# Altium schematic symbol library Inverting buck boost.SchLib: 104 symbols (part 3 of 9)
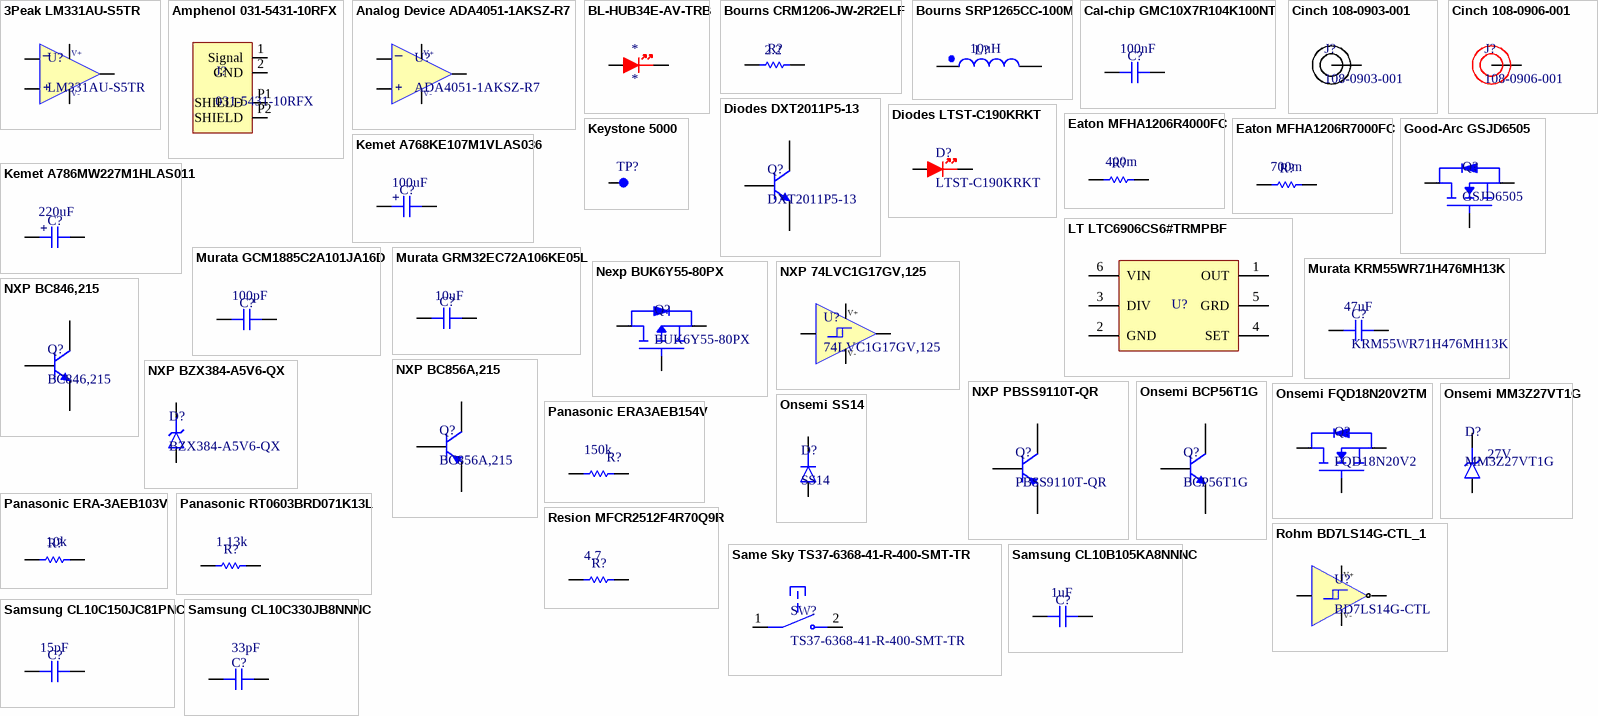
[diagram p4: symbols 3Peak LM331AU-S5TR to Samsung CL10C330JB8NNNC]

## Onsemi SS14
designator D?, comment SS14
SS14 Series 500 mV 1 A 40 V Max Reverse Voltage Schottky Rectifier - DO-214AC; Manufacturer: onsemi; Manufacturer Lifecycle Status: ACTIVE; Average Rectified Current: 1A; Element Configuration: Single; Forward Voltage: 500mV; Max Forward Surge Current (Ifsm): 30A; Max Junction Temperature (Tj): 125°C; Max Power Dissipation: 1.1W; Max Repetitive Reverse Voltage (Vrrm): 40V; Number of Elements: 1; Peak Non-Repetitive Surge Current: 40A; Peak Reverse Current: 200µA; Polarity: Standard; Voltage: 30V; Supplier: RS; Supplier Part Number: 7390467; Manufacturer Part Number: SS14; RoHS: Compliant; Category: Schottky Diodes; Stock: 1060; Pricing: 5=0,274, 50=0,236, 100=0,204, 500=0,18, 1000=0,164 (EUR); Case/Package: SMA; China RoHS: Non-Compliant; Country of Origin: Mainland China; Current: 1A; Current Rating: 1A; Export Control Classification Number (ECCN) Code: EAR99; Forward Current: 1A; Height: 2.5mm; Harmonized Tariff Schedule (HTS) Code: 8541.10.00.80; Introduction Date: 1998-01-01; Lead Free: Lead Free; Length: 4.6mm; Lifecycle Status: Production; Max Operating Temperature: 125°C; Max Output current: 1A; Max Reverse Voltage (DC): 40V; Min Operating Temperature: -65°C; Mounting Technology: Surface Mount; Pins: 2; Number of Terminals: 2; Output Current: 1A; Packaging: Cut Tape; Power Dissipation: 1.1W; Radiation Hardening: No; REACH SVHC: No; Reverse Standoff Voltage: 40V; Schedule B: 8541100080, 8541100080|8541100080|8541100080|8541100080|8541100080|8541100080|8541100080|8541100080|8541100080|8541100080|8541100080|8541100080|8541100080|8541100080|8541100080|8541100080|8541100080|8541100080|8541100080|8541100080|8541100080|8541100080|8541100080|85; Termination: SMD/SMT; Voltage Rating (DC): 40V; Weight: 105.998867mg; Width: 2.9mm; ComponentLink1URL: https://datasheet.octopart.com:443/SS14-onsemi-datasheet-180969535.pdf?src-supplier=IHS; ComponentLink1Description: https://datasheet.octopart.com:443/SS14-onsemi-datasheet-180969535.pdf?src-supplier=IHS; ComponentLink2URL: https://datasheet.octopart.com:443/SS14-Fairchild-Semiconductor-datasheet-37002494.pdf?src-supplier=IHS; ComponentLink2Description: https://datasheet.octopart.com:443/SS14-Fairchild-Semiconductor-datasheet-37002494.pdf?src-supplier=IHS; ComponentLink3URL: https://datasheet.octopart.com:443/SS14-ON-Semiconductor-datasheet-137256445.pdf?src-supplier=Electro+Sonic; ComponentLink3Description: https://datasheet.octopart.com:443/SS14-ON-Semiconductor-datasheet-137256445.pdf?src-supplier=Electro+Sonic; ComponentLink4URL: https://datasheet.octopart.com:443/SS14-ON-Semiconductor-datasheet-119409881.pdf?src-supplier=onsemi; ComponentLink4Description: https://datasheet.octopart.com:443/SS14-ON-Semiconductor-datasheet-119409881.pdf?src-supplier=onsemi; ComponentLink5URL: https://datasheet.octopart.com:443/SS14-ON-Semiconductor-datasheet-86698600.pdf?src-supplier=onsemi; ComponentLink5Description: https://datasheet.octopart.com:443/SS14-ON-Semiconductor-datasheet-86698600.pdf?src-supplier=onsemi; ComponentLink6URL: https://datasheet.octopart.com:443/SS14-ON-Semiconductor-datasheet-21199495.pdf?src-supplier=Future+Electronics; ComponentLink6Description: https://datasheet.octopart.com:443/SS14-ON-Semiconductor-datasheet-21199495.pdf?src-supplier=Future+Electronics; ComponentLink7URL: https://datasheet.octopart.com:443/SS14.-Fairchild-Semiconductor-datasheet-3545.pdf?src-supplier=element14+APAC; ComponentLink7Description: https://datasheet.octopart.com:443/SS14.-Fairchild-Semiconductor-datasheet-3545.pdf?src-supplier=element14+APAC; ComponentLink8URL: https://datasheet.octopart.com:443/SS14-Fairchild-Semiconductor-datasheet-67132011.pdf?src-supplier=element14+APAC; ComponentLink8Description: https://datasheet.octopart.com:443/SS14-Fairchild-Semiconductor-datasheet-67132011.pdf?src-supplier=element14+APAC; ComponentLink9URL: https://datasheet.octopart.com:443/SS14-Fairchild-Semiconductor-datasheet-68481721.pdf?src-supplier=element14+APAC; ComponentLink9Description: https://datasheet.octopart.com:443/SS14-Fairchild-Semiconductor-datasheet-68481721.pdf?src-supplier=element14+APAC; ComponentLink10URL: https://datasheet.octopart.com:443/SS14-onsemi-datasheet-178499215.pdf?src-supplier=Newark; ComponentLink10Description: https://datasheet.octopart.com:443/SS14-onsemi-datasheet-178499215.pdf?src-supplier=Newark; ComponentLink11URL: https://datasheet.octopart.com:443/SS14-Fairchild-Semiconductor-datasheet-67356306.pdf?src-supplier=Newark; ComponentLink11Description: https://datasheet.octopart.com:443/SS14-Fairchild-Semiconductor-datasheet-67356306.pdf?src-supplier=Newark; ComponentLink12URL: https://datasheet.octopart.com:443/SS14-Fairchild-Semiconductor-datasheet-67879033.pdf?src-supplier=Newark; ComponentLink12Description: https://datasheet.octopart.com:443/SS14-Fairchild-Semiconductor-datasheet-67879033.pdf?src-supplier=Newark; ComponentLink13URL: https://datasheet.octopart.com:443/SS14-ON-Semiconductor-datasheet-86692975.pdf?src-supplier=Farnell; ComponentLink13Description: https://datasheet.octopart.com:443/SS14-ON-Semiconductor-datasheet-86692975.pdf?src-supplier=Farnell; ComponentLink14URL: https://datasheet.octopart.com:443/SS14-onsemi-datasheet-137710389.pdf?src-supplier=TME; ComponentLink14Description: https://datasheet.octopart.com:443/SS14-onsemi-datasheet-137710389.pdf?src-supplier=TME; ComponentLink15URL: https://datasheet.octopart.com:443/SS14-ON-Semiconductor-datasheet-78863395.pdf?src-supplier=TME; ComponentLink15Description: https://datasheet.octopart.com:443/SS14-ON-Semiconductor-datasheet-78863395.pdf?src-supplier=TME; ComponentLink16URL: https://sigma.octopart.com:443/17345279/technical_drawing/Fairchild-Semiconductor-SS14..pdf?src-supplier=Fairchild+Semiconductor; ComponentLink16Description: https://sigma.octopart.com:443/17345279/technical_drawing/Fairchild-Semiconductor-SS14..pdf?src-supplier=Fairchild+Semiconductor; ComponentLink17URL: https://datasheet.octopart.com:443/SS14.-Fairchild-Semiconductor-datasheet-8381571.pdf?src-supplier=Jameco; ComponentLink17Description: https://datasheet.octopart.com:443/SS14.-Fairchild-Semiconductor-datasheet-8381571.pdf?src-supplier=Jameco; ComponentLink18URL: http://sigma.octopart.com:80/150631693/rohs_statement/ON-Semiconductor-SS14.pdf?src-supplier=Compliance+Statements; ComponentLink18Description: http://sigma.octopart.com:80/150631693/rohs_statement/ON-Semiconductor-SS14.pdf?src-supplier=Compliance+Statements; ComponentLink19URL: http://sigma.octopart.com:80/17357451/materials_sheet/Fairchild-Semiconductor-SS14..pdf?src-supplier=Compliance+Statements; ComponentLink19Description: http://sigma.octopart.com:80/17357451/materials_sheet/Fairchild-Semiconductor-SS14..pdf?src-supplier=Compliance+Statements; ComponentLink20URL: http://sigma.octopart.com:80/17357450/reach_statement/Fairchild-Semiconductor-SS14..pdf?src-supplier=Compliance+Statements; ComponentLink20Description: http://sigma.octopart.com:80/17357450/reach_statement/Fairchild-Semiconductor-SS14..pdf?src-supplier=Compliance+Statements; ComponentLink21URL: http://sigma.octopart.com:80/33331861/reach_statement/Fairchild-Semiconductor-SS14..pdf?src-supplier=Compliance+Statements; ComponentLink21Description: http://sigma.octopart.com:80/33331861/reach_statement/Fairchild-Semiconductor-SS14..pdf?src-supplier=Compliance+Statements; ComponentLink22URL: http://sigma.octopart.com:80/33331862/materials_sheet/Fairchild-Semiconductor-SS14..pdf?src-supplier=Compliance+Statements; ComponentLink22Description: http://sigma.octopart.com:80/33331862/materials_sheet/Fairchild-Semiconductor-SS14..pdf?src-supplier=Compliance+Statements; ComponentLink23URL: http://sigma.octopart.com:80/reach_statement/ON-Semiconductor-company-79.pdf?src-supplier=Compliance+Statements; ComponentLink23Description: http://sigma.octopart.com:80/reach_statement/ON-Semiconductor-company-79.pdf?src-supplier=Compliance+Statements; ComponentLink24URL: http://sigma.octopart.com:80/rohs_statement/Fairchild-Semiconductor-company-11.pdf?src-supplier=Compliance+Statements; ComponentLink24Description: http://sigma.octopart.com:80/rohs_statement/Fairchild-Semiconductor-company-11.pdf?src-supplier=Compliance+Statements; ComponentLink25URL: http://sigma.octopart.com:80/rohs_statement/Fairchild-Semiconductor-company-10.pdf?src-supplier=Compliance+Statements; ComponentLink25Description: http://sigma.octopart.com:80/rohs_statement/Fairchild-Semiconductor-company-10.pdf?src-supplier=Compliance+Statements; ComponentLink26URL: http://sigma.octopart.com:80/reach_statement/Fairchild-Semiconductor-company-9.pdf?src-supplier=Compliance+Statements; ComponentLink26Description: http://sigma.octopart.com:80/reach_statement/Fairchild-Semiconductor-company-9.pdf?src-supplier=Compliance+Statements; ComponentLink27URL: https://octopart.com:443/opatz8j6/c1?t=Bw0gF7dTHBBNgIRwmL-w_2CyYL2SBkPqmv81bh-l31_h4wWg3_a04vj5nygZPKjJEbqCn-V3QJKPEtJbJZ9dK76nf60b1hnFYSb2utlv1JMZ7nt7LZDcLJB6MnS0HXUMNymQ9MKHht22UTBn3FPLIAeU_nKjXm585aLMzgts1grjV1usOojzByqPrb06YMMbaH2DemZtlAMpdE8kThGW13fMNBaSLxUaqaEw9yCul6wsHG4N0hle5kO4fDo68Lm_qc0J9mjVS1cKqi_KRYcR4HzMEZdKKCtujOS1LtQ51mEG8ds8yMcLACJrlGl72MtFCtRQExHmh1A08LYIe9nE1jxUQxpaAYU&src-supplier=Compliance+Statements; ComponentLink27Description: https://octopart.com:443/opatz8j6/c1?t=Bw0gF7dTHBBNgIRwmL-w_2CyYL2SBkPqmv81bh-l31_h4wWg3_a04vj5nygZPKjJEbqCn-V3QJKPEtJbJZ9dK76nf60b1hnFYSb2utlv1JMZ7nt7LZDcLJB6MnS0HXUMNymQ9MKHht22UTBn3FPLIAeU_nKjXm585aLMzgts1grjV1usOojzByqPrb06YMMbaH2DemZtlAMpdE8kThGW13fMNBaSLxUaqaEw9yCul6wsHG4N0hle5kO4fDo68Lm_qc0J9mjVS1cKqi_KRYcR4HzMEZdKKCtujOS1LtQ51mEG8ds8yMcLACJrlGl72MtFCtRQExHmh1A08LYIe9nE1jxUQxpaAYU&src-supplier=Compliance+Statements; ComponentLink28URL: https://octopart.com:443/opatz8j6/c1?t=Oy9Y_xQ8UBTUdj6PwzXwp1zs71_1odZp0ZU_YgdGe4cRGR2grA12wzMk0vFreugSMOPhDRboFjT3DxMxky9bE1pRs3RzwJ4HuhrWPX0Rvf9JkcZ-KzK2E-hTxLa87m8fCG3QDeTdPLKe0q9nCHkQ9Fq-P1zjt1qPa8QNtTjCwRNLV7KQZ0akwYUkHij7z86lA5yyHwuacyylqSQdeLnxu4qSYfmPMgjMEw-ejaQVRBCjOvHtUB15Vc3ByBR5f7PieHEl4NkUuljoGV4a9YtBLQqKu7wBh9trMegOXFlGaLSEvBsdfJivtg_oNHsdlAJBiRoCdT3_Ib8N5sEl_iSFZc4efKmkxQ&src-supplier=Compliance+Statements; ComponentLink28Description: https://octopart.com:443/opatz8j6/c1?t=Oy9Y_xQ8UBTUdj6PwzXwp1zs71_1odZp0ZU_YgdGe4cRGR2grA12wzMk0vFreugSMOPhDRboFjT3DxMxky9bE1pRs3RzwJ4HuhrWPX0Rvf9JkcZ-KzK2E-hTxLa87m8fCG3QDeTdPLKe0q9nCHkQ9Fq-P1zjt1qPa8QNtTjCwRNLV7KQZ0akwYUkHij7z86lA5yyHwuacyylqSQdeLnxu4qSYfmPMgjMEw-ejaQVRBCjOvHtUB15Vc3ByBR5f7PieHEl4NkUuljoGV4a9YtBLQqKu7wBh9trMegOXFlGaLSEvBsdfJivtg_oNHsdlAJBiRoCdT3_Ib8N5sEl_iSFZc4efKmkxQ&src-supplier=Compliance+Statements
footprint DO-214AC
pins: A, C

## Panasonic ERA3AEB154V
designator R?, comment Resistance: 150k  (hidden comment: ERA3AEB154V)
Res Thin Film 0603 150K Ohm 0.1% 0.1W ±25ppm/°C Molded SMD Punched Carrier T/R; Manufacturer: Panasonic; Manufacturer Lifecycle Status: ACTIVE; Part Series: Thin Film Chip Resistors, High Reliability Type; Max Power Dissipation: 100mW; Voltage Rating: 75V; Supplier: RS; Supplier Part Number: 566856P; Manufacturer Part Number: ERA3AEB154V; RoHS: Compliant; Category: Chip SMD Resistors; Stock: 2815; Pricing: 50=0,056, 100=0,046, 250=0,04, 500=0,036 (EUR); Case/Package: 0603; Case Code (Imperial): 0603; Composition: Thin Film; Contact Plating: Tin; Country of Origin: Japan; Depth: 800µm; Export Control Classification Number (ECCN) Code: EAR99; Features: Automotive AEC-Q200; Height: 450µm; Harmonized Tariff Schedule (HTS) Code: 8533.21.00.30; Introduction Date: 2008-03-19; Lead Free: Lead Free; Length: 1.6mm; Lifecycle Status: Production; Max Operating Temperature: 155°C; Military Standard: Not; Min Operating Temperature: -55°C; Mounting Technology: Surface Mount; Pins: 2; Number of Terminals: 2; Number of Terminations: 2; Packaging: Cut Tape; Power Rating: 100mW; Radiation Hardening: No; Ratings: AEC-Q200; REACH SVHC: Yes; Schedule B: 8533210045, 8533210045|8533210045, 8533210045|8533210045|8533210045, 8533210045|8533210045|8533210045|8533210045; Temperature Coefficient: 25ppm/°C; Termination: SMD/SMT; Tolerance: 0.1%; Voltage Rating (DC): 75V; Width: 800µm; Working Voltage: 75V; ComponentLink1URL: https://datasheet.octopart.com/ERA3AEB154V-Panasonic-datasheet-62287448.pdf; ComponentLink1Description: https://datasheet.octopart.com/ERA3AEB154V-Panasonic-datasheet-62287448.pdf; ComponentLink2URL: https://datasheet.octopart.com/ERA3AEB154V-Panasonic-datasheet-78375410.pdf; ComponentLink2Description: https://datasheet.octopart.com/ERA3AEB154V-Panasonic-datasheet-78375410.pdf; ComponentLink3URL: https://sigma.octopart.com:443/138766958/technical_drawing/Panasonic-ERA-3AEB154V.pdf?src-supplier=Upverter; ComponentLink3Description: https://sigma.octopart.com:443/138766958/technical_drawing/Panasonic-ERA-3AEB154V.pdf?src-supplier=Upverter; ComponentLink4URL: https://datasheet.octopart.com:443/ERA3AEB154V-Panasonic-datasheet-8367715.pdf?src-supplier=Newark; ComponentLink4Description: https://datasheet.octopart.com:443/ERA3AEB154V-Panasonic-datasheet-8367715.pdf?src-supplier=Newark; ComponentLink5URL: https://datasheet.octopart.com:443/ERA3AEB154V-Panasonic-datasheet-136531316.pdf?src-supplier=Newark; ComponentLink5Description: https://datasheet.octopart.com:443/ERA3AEB154V-Panasonic-datasheet-136531316.pdf?src-supplier=Newark; ComponentLink6URL: https://datasheet.octopart.com:443/ERA3AEB154V-Panasonic-datasheet-61114971.pdf?src-supplier=Newark; ComponentLink6Description: https://datasheet.octopart.com:443/ERA3AEB154V-Panasonic-datasheet-61114971.pdf?src-supplier=Newark; ComponentLink7URL: https://datasheet.octopart.com:443/ERA-3AEB154V-Panasonic-datasheet-13266200.pdf?src-supplier=_legacy+Avnet; ComponentLink7Description: https://datasheet.octopart.com:443/ERA-3AEB154V-Panasonic-datasheet-13266200.pdf?src-supplier=_legacy+Avnet; ComponentLink8URL: https://datasheet.octopart.com:443/ERA-3AEB154V-Panasonic-datasheet-118567.pdf?src-supplier=element14; ComponentLink8Description: https://datasheet.octopart.com:443/ERA-3AEB154V-Panasonic-datasheet-118567.pdf?src-supplier=element14; ComponentLink9URL: https://datasheet.octopart.com:443/ERA-3AEB154V-Panasonic-datasheet-154766165.pdf?src-supplier=Master+Electronics; ComponentLink9Description: https://datasheet.octopart.com:443/ERA-3AEB154V-Panasonic-datasheet-154766165.pdf?src-supplier=Master+Electronics; ComponentLink10URL: https://datasheet.octopart.com:443/ERA-3AEB154V-Panasonic-datasheet-12510007.pdf?src-supplier=Future+Electronics; ComponentLink10Description: https://datasheet.octopart.com:443/ERA-3AEB154V-Panasonic-datasheet-12510007.pdf?src-supplier=Future+Electronics; ComponentLink11URL: https://datasheet.octopart.com:443/ERA-3AEB154V-Panasonic-datasheet-11763931.pdf?src-supplier=Future+Electronics; ComponentLink11Description: https://datasheet.octopart.com:443/ERA-3AEB154V-Panasonic-datasheet-11763931.pdf?src-supplier=Future+Electronics; ComponentLink12URL: https://datasheet.octopart.com:443/ERA-3AEB154V-Panasonic-datasheet-10840895.pdf?src-supplier=Future+Electronics; ComponentLink12Description: https://datasheet.octopart.com:443/ERA-3AEB154V-Panasonic-datasheet-10840895.pdf?src-supplier=Future+Electronics; ComponentLink13URL: https://datasheet.octopart.com:443/ERA-3AEB154V-Panasonic-datasheet-5392808.pdf?src-supplier=Future+Electronics; ComponentLink13Description: https://datasheet.octopart.com:443/ERA-3AEB154V-Panasonic-datasheet-5392808.pdf?src-supplier=Future+Electronics; ComponentLink14URL: https://datasheet.octopart.com:443/ERA-3AEB154V-Panasonic-datasheet-46744048.pdf?src-supplier=RS+(Formerly+Allied+Electronics); ComponentLink14Description: https://datasheet.octopart.com:443/ERA-3AEB154V-Panasonic-datasheet-46744048.pdf?src-supplier=RS+(Formerly+Allied+Electronics); ComponentLink15URL: https://datasheet.octopart.com:443/ERA3AEB154V-Panasonic-datasheet-188913046.pdf?src-supplier=TME; ComponentLink15Description: https://datasheet.octopart.com:443/ERA3AEB154V-Panasonic-datasheet-188913046.pdf?src-supplier=TME; ComponentLink16URL: https://sigma.octopart.com:443/150570796/technical_drawing/Panasonic-ERA3AEB154V.pdf?src-supplier=Panasonic+SCT; ComponentLink16Description: https://sigma.octopart.com:443/150570796/technical_drawing/Panasonic-ERA3AEB154V.pdf?src-supplier=Panasonic+SCT; ComponentLink17URL: https://datasheet.octopart.com:443/ERA3AEB154V-Panasonic-datasheet-138783076.pdf?src-supplier=Burklin+Elektronik; ComponentLink17Description: https://datasheet.octopart.com:443/ERA3AEB154V-Panasonic-datasheet-138783076.pdf?src-supplier=Burklin+Elektronik; ComponentLink18URL: https://datasheet.octopart.com:443/ERA3AEB154V-Panasonic---ECG-datasheet-15994758.pdf?src-supplier=Farnell; ComponentLink18Description: https://datasheet.octopart.com:443/ERA3AEB154V-Panasonic---ECG-datasheet-15994758.pdf?src-supplier=Farnell; ComponentLink19URL: https://datasheet.octopart.com:443/ERA-3AEB154V-Panasonic-datasheet-33006989.pdf?src-supplier=Electro+Sonic; ComponentLink19Description: https://datasheet.octopart.com:443/ERA-3AEB154V-Panasonic-datasheet-33006989.pdf?src-supplier=Electro+Sonic
footprint res_0603
pins: 1, 2

## Panasonic ERA-3AEB103V
designator R?, comment Resistance: 10k  (hidden comment: ERA-3AEB103V)
Res Thin Film 0603 10K Ohm 0.1% 1/10W ±25ppm/°C Molded SMD SMD Punched Carrier T/R; Manufacturer: Panasonic; Manufacturer Lifecycle Status: ACTIVE; Part Series: Thin Film Chip Resistors, High Reliability Type; Max Power Dissipation: 100mW; Voltage Rating: 75V; Supplier: RS; Supplier Part Number: 566890P; Manufacturer Part Number: ERA-3AEB103V; RoHS: Compliant; Category: Chip SMD Resistors; Stock: 165600; Pricing: 50=0,056, 100=0,046, 250=0,04, 500=0,036 (EUR); Case/Package: 0603; Case Code (Imperial): 0603; Composition: Thin Film; Contact Plating: Tin; Country of Origin: Japan; Depth: 800µm; Export Control Classification Number (ECCN) Code: EAR99; Height: 450µm; Harmonized Tariff Schedule (HTS) Code: 8533.21.00.30; Introduction Date: 2008-03-19; Lead Free: Lead Free; Length: 1.6mm; Lifecycle Status: Production; Max Operating Temperature: 155°C; Military Standard: Not; Min Operating Temperature: -55°C; Mounting Technology: Surface Mount; Pins: 2; Number of Terminals: 2; Number of Terminations: 2; Packaging: Cut Tape; Power Rating: 100mW; Radiation Hardening: No; Ratings: AEC-Q200; REACH SVHC: Yes; Schedule B: 8533210045, 8533210045|8533210045|8533210045|8533210045|8533210045|8533210045|8533210045|8533210045|8533210045|8533210045|8533210045|8533210045|8533210045|8533210045|8533210045|8533210045|8533210045|8533210045|8533210045|8533210045|8533210045|8533210045|8533210045|85; Temperature Coefficient: 25ppm/°C; Termination: SMD/SMT; Tolerance: 0.1%; Voltage Rating (DC): 75V; Width: 800µm; Working Voltage: 75V; ComponentLink1URL: https://datasheet.octopart.com:443/ERA-3AEB103V-Panasonic-datasheet-62287448.pdf?src-supplier=Newark; ComponentLink1Description: https://datasheet.octopart.com:443/ERA-3AEB103V-Panasonic-datasheet-62287448.pdf?src-supplier=Newark; ComponentLink2URL: https://datasheet.octopart.com:443/ERA-3AEB103V-Panasonic-datasheet-118567.pdf?src-supplier=Newark; ComponentLink2Description: https://datasheet.octopart.com:443/ERA-3AEB103V-Panasonic-datasheet-118567.pdf?src-supplier=Newark; ComponentLink3URL: https://datasheet.octopart.com:443/ERA-3AEB103V-Panasonic-datasheet-61114971.pdf?src-supplier=Newark; ComponentLink3Description: https://datasheet.octopart.com:443/ERA-3AEB103V-Panasonic-datasheet-61114971.pdf?src-supplier=Newark; ComponentLink4URL: https://datasheet.octopart.com:443/ERA3AEB103V-Panasonic-datasheet-22087624.pdf?src-supplier=Newark; ComponentLink4Description: https://datasheet.octopart.com:443/ERA3AEB103V-Panasonic-datasheet-22087624.pdf?src-supplier=Newark; ComponentLink5URL: https://sigma.octopart.com:443/138766958/technical_drawing/Panasonic-ERA-3AEB103V.pdf?src-supplier=Upverter; ComponentLink5Description: https://sigma.octopart.com:443/138766958/technical_drawing/Panasonic-ERA-3AEB103V.pdf?src-supplier=Upverter; ComponentLink6URL: https://datasheet.octopart.com:443/ERA-3AEB103V-Panasonic-datasheet-136531316.pdf?src-supplier=Farnell; ComponentLink6Description: https://datasheet.octopart.com:443/ERA-3AEB103V-Panasonic-datasheet-136531316.pdf?src-supplier=Farnell; ComponentLink7URL: https://datasheet.octopart.com:443/ERA-3AEB103V-Panasonic-datasheet-13266200.pdf?src-supplier=RS+(Formerly+Allied+Electronics); ComponentLink7Description: https://datasheet.octopart.com:443/ERA-3AEB103V-Panasonic-datasheet-13266200.pdf?src-supplier=RS+(Formerly+Allied+Electronics); ComponentLink8URL: https://datasheet.octopart.com:443/ERA-3AEB103V-Panasonic-datasheet-46744048.pdf?src-supplier=RS+(Formerly+Allied+Electronics); ComponentLink8Description: https://datasheet.octopart.com:443/ERA-3AEB103V-Panasonic-datasheet-46744048.pdf?src-supplier=RS+(Formerly+Allied+Electronics); ComponentLink9URL: https://datasheet.octopart.com:443/ERA-3AEB103V-Panasonic-datasheet-10840895.pdf?src-supplier=Future+Electronics; ComponentLink9Description: https://datasheet.octopart.com:443/ERA-3AEB103V-Panasonic-datasheet-10840895.pdf?src-supplier=Future+Electronics; ComponentLink10URL: https://datasheet.octopart.com:443/ERA-3AEB103V-Panasonic-datasheet-8367715.pdf?src-supplier=Future+Electronics; ComponentLink10Description: https://datasheet.octopart.com:443/ERA-3AEB103V-Panasonic-datasheet-8367715.pdf?src-supplier=Future+Electronics; ComponentLink11URL: https://datasheet.octopart.com:443/ERA-3AEB103V-Panasonic-datasheet-12510007.pdf?src-supplier=Future+Electronics; ComponentLink11Description: https://datasheet.octopart.com:443/ERA-3AEB103V-Panasonic-datasheet-12510007.pdf?src-supplier=Future+Electronics; ComponentLink12URL: https://datasheet.octopart.com:443/ERA-3AEB103V-Panasonic-datasheet-11763931.pdf?src-supplier=Future+Electronics; ComponentLink12Description: https://datasheet.octopart.com:443/ERA-3AEB103V-Panasonic-datasheet-11763931.pdf?src-supplier=Future+Electronics; ComponentLink13URL: https://datasheet.octopart.com:443/ERA-3AEB103V-Panasonic-datasheet-5392808.pdf?src-supplier=Future+Electronics; ComponentLink13Description: https://datasheet.octopart.com:443/ERA-3AEB103V-Panasonic-datasheet-5392808.pdf?src-supplier=Future+Electronics; ComponentLink14URL: https://datasheet.octopart.com:443/ERA-3AEB103V-Panasonic-datasheet-154766165.pdf?src-supplier=Master+Electronics; ComponentLink14Description: https://datasheet.octopart.com:443/ERA-3AEB103V-Panasonic-datasheet-154766165.pdf?src-supplier=Master+Electronics; ComponentLink15URL: https://datasheet.octopart.com:443/ERA3AEB103V-Panasonic-datasheet-188913046.pdf?src-supplier=TME; ComponentLink15Description: https://datasheet.octopart.com:443/ERA3AEB103V-Panasonic-datasheet-188913046.pdf?src-supplier=TME; ComponentLink16URL: https://sigma.octopart.com:443/150570796/technical_drawing/Panasonic-ERA3AEB103V.pdf?src-supplier=Panasonic+SCT; ComponentLink16Description: https://sigma.octopart.com:443/150570796/technical_drawing/Panasonic-ERA3AEB103V.pdf?src-supplier=Panasonic+SCT; ComponentLink17URL: https://datasheet.octopart.com:443/ERA3AEB103V-Panasonic-datasheet-138783076.pdf?src-supplier=Burklin+Elektronik; ComponentLink17Description: https://datasheet.octopart.com:443/ERA3AEB103V-Panasonic-datasheet-138783076.pdf?src-supplier=Burklin+Elektronik; ComponentLink18URL: https://datasheet.octopart.com/ERA-3AEB103V-Panasonic-datasheet-78375410.pdf; ComponentLink18Description: https://datasheet.octopart.com/ERA-3AEB103V-Panasonic-datasheet-78375410.pdf; ComponentLink19URL: https://datasheet.octopart.com:443/ERA-3AEB103V-Panasonic-datasheet-10050158.pdf?src-supplier=Arrow+Electronics; ComponentLink19Description: https://datasheet.octopart.com:443/ERA-3AEB103V-Panasonic-datasheet-10050158.pdf?src-supplier=Arrow+Electronics; ComponentLink20URL: https://datasheet.octopart.com:443/ERA-3AEB103V-Panasonic-datasheet-33006989.pdf?src-supplier=Electro+Sonic; ComponentLink20Description: https://datasheet.octopart.com:443/ERA-3AEB103V-Panasonic-datasheet-33006989.pdf?src-supplier=Electro+Sonic
footprint res_0603
pins: 1, 2

## Panasonic RT0603BRD071K13L
designator R?, comment Resistance: 1.13k  (hidden comment: RT0603BRD071K13L)
Res Thin Film 0603 1.13K Ohm 0.1% 0.1W(1/10W) ±25ppm/C Pad SMD T/R; Manufacturer: Yageo Group; Max Power Dissipation: 100mW; Temperature Coefficient: 25ppm/°C; Voltage Rating: 75V; Voltage Rating (DC): 50V; Supplier: Arrow Electronics; Supplier Part Number: RT0603BRD071K13L; Manufacturer Part Number: RT0603BRD071K13L; RoHS: Compliant; Category: Chip SMD Resistors; Stock: 2853; Pricing: 1=0,0998, 10=0,0669, 25=0,0627, 50=0,0591, 100=0,0558, 250=0,0518, 500=0,049, 1000=0,0464 (USD); Case/Package: 0603; Case Code (Imperial): 0603; China RoHS: Non-Compliant; Composition: Thin Film; Contact Plating: Tin; Country of Origin: Mainland China, Taiwan; Depth: 800µm; Export Control Classification Number (ECCN) Code: EAR99; Height: 450µm; Harmonized Tariff Schedule (HTS) Code: 8533.21.00.30; Introduction Date: 2008-06-09; Lead Free: Lead Free; Length: 1.6mm; Lifecycle Status: Production; Max Operating Temperature: 155°C; Military Standard: Not; Min Operating Temperature: -55°C; Mounting Technology: Surface Mount; Number of Terminals: 2; Number of Terminations: 2; Power Rating: 100mW; Radiation Hardening: No; REACH SVHC: Yes; Schedule B: 8533210045, 8533210045|8533210045|8533210045|8533210045|8533210045; Termination: SMD/SMT; Tolerance: 0.1%; Weight: 2.012816mg; Width: 800µm; Working Voltage: 75V; ComponentLink1URL: https://datasheet.octopart.com:443/RT0603BRD071K13L-Yageo-datasheet-176402239.pdf?src-supplier=Future+Electronics; ComponentLink1Description: https://datasheet.octopart.com:443/RT0603BRD071K13L-Yageo-datasheet-176402239.pdf?src-supplier=Future+Electronics; ComponentLink2URL: https://datasheet.octopart.com:443/RT0603BRD071K13L-Yageo-datasheet-169971040.pdf?src-supplier=Future+Electronics; ComponentLink2Description: https://datasheet.octopart.com:443/RT0603BRD071K13L-Yageo-datasheet-169971040.pdf?src-supplier=Future+Electronics; ComponentLink3URL: https://datasheet.octopart.com:443/RT0603BRD071K13L-Yageo-datasheet-166250672.pdf?src-supplier=Future+Electronics; ComponentLink3Description: https://datasheet.octopart.com:443/RT0603BRD071K13L-Yageo-datasheet-166250672.pdf?src-supplier=Future+Electronics; ComponentLink4URL: https://datasheet.octopart.com:443/RT0603BRD071K13L-Yageo-datasheet-137700930.pdf?src-supplier=Future+Electronics; ComponentLink4Description: https://datasheet.octopart.com:443/RT0603BRD071K13L-Yageo-datasheet-137700930.pdf?src-supplier=Future+Electronics; ComponentLink5URL: https://datasheet.octopart.com:443/RT0603BRD071K13L-Yageo-datasheet-96443642.pdf?src-supplier=Upverter; ComponentLink5Description: https://datasheet.octopart.com:443/RT0603BRD071K13L-Yageo-datasheet-96443642.pdf?src-supplier=Upverter; ComponentLink6URL: https://datasheet.octopart.com:443/RT0603BRD071K13L-Yageo-Group-datasheet-141265893.pdf?src-supplier=ODG+(Origin+Data+Global); ComponentLink6Description: https://datasheet.octopart.com:443/RT0603BRD071K13L-Yageo-Group-datasheet-141265893.pdf?src-supplier=ODG+(Origin+Data+Global); ComponentLink7URL: https://datasheet.octopart.com:443/RT0603BRD071K13L-Yageo-datasheet-10915759.pdf?src-supplier=_legacy+Avnet; ComponentLink7Description: https://datasheet.octopart.com:443/RT0603BRD071K13L-Yageo-datasheet-10915759.pdf?src-supplier=_legacy+Avnet; ComponentLink8URL: https://datasheet.octopart.com/RT0603BRD071K13L-Yageo-datasheet-86813807.pdf; ComponentLink8Description: https://datasheet.octopart.com/RT0603BRD071K13L-Yageo-datasheet-86813807.pdf; ComponentLink9URL: http://sigma.octopart.com:80/conflict_mineral_statement/Yageo-company-3.pdf?src-supplier=Compliance+Statements; ComponentLink9Description: http://sigma.octopart.com:80/conflict_mineral_statement/Yageo-company-3.pdf?src-supplier=Compliance+Statements; ComponentLink10URL: http://sigma.octopart.com:80/rohs_statement/Yageo-company-2.pdf?src-supplier=Compliance+Statements; ComponentLink10Description: http://sigma.octopart.com:80/rohs_statement/Yageo-company-2.pdf?src-supplier=Compliance+Statements
footprint RES_0603
pins: 1, 2

## Resion MFCR2512F4R70Q9R
designator R?, comment Resistance: 4.7  (hidden comment: MFCR2512F4R70Q9R)
4.7 Ohm 1% 2W 50PPM/C; Manufacturer: Resion; Supplier: DigiKey; Supplier Part Number: 4506-MFCR2512F4R70Q9RCT-ND; Manufacturer Part Number: MFCR2512F4R70Q9R; Category: Chip SMD Resistors; Stock: 1143; Pricing: 1=0,43, 10=0,238, 25=0,196, 50=0,1722, 100=0,1533, 250=0,13416, 500=0,12316, 1000=0,11441 (USD)
footprint RES_2512
pins: 1, 2

## Rohm BD7LS14G-CTL_1
designator U?, comment BD7LS14G-CTL
Inverter Schmitt Trigger 1-Element Bipolar Automotive 5-Pin SSOP; Manufacturer: ROHM; Supplier: Arrow Electronics; Supplier Part Number: BD7LS14G-CTL; Manufacturer Part Number: BD7LS14G-CTL; RoHS: Compliant; Category: Logic Gates; Stock: 132; Pricing: 1=0,3859, 10=0,2699, 25=0,236, 100=0,2023 (USD); Export Control Classification Number (ECCN) Code: EAR99; Harmonized Tariff Schedule (HTS) Code: 8542.39.00.01; Introduction Date: 2020-08-18; Lifecycle Status: Production; REACH SVHC: Yes; ComponentLink1URL: https://datasheet.octopart.com:443/BD7LS14G-CTL-ROHM-datasheet-181218343.pdf?src-supplier=IHS; ComponentLink1Description: https://datasheet.octopart.com:443/BD7LS14G-CTL-ROHM-datasheet-181218343.pdf?src-supplier=IHS; ComponentLink2URL: https://datasheet.octopart.com:443/BD7LS14G-CTL-ROHM-datasheet-181960431.pdf?src-supplier=Newark; ComponentLink2Description: https://datasheet.octopart.com:443/BD7LS14G-CTL-ROHM-datasheet-181960431.pdf?src-supplier=Newark
footprint ssop5
pins: 2 A, 3 V-, 4 Y, 5 V+

## Same Sky TS37-6368-41-R-400-SMT-TR
designator SW?, comment TS37-6368-41-R-400-SMT-TR
6.3 x 6.8 mm, 4.1 mm Actuator Height Off PCB, 400 gf, Red, Surface Mount, SPST, Tactile Switch; Manufacturer: Same Sky; Supplier: DigiKey; Supplier Part Number: 2223-TS37-6368-41-R-400-SMT-TR-ND; Manufacturer Part Number: TS37-6368-41-R-400-SMT-TR; Category: Tactile Switches; Stock: 3899; Pricing: 1300=0,52996, 2600=0,5032, 3900=0,48887, 6500=0,47218, 9100=0,46198, 13000=0,45185 (USD); Lifecycle Status: Production; ComponentLink1URL: https://datasheet.octopart.com:443/TS37-6368-41-R-400-SMT-TR-Same-Sky-datasheet-191161330.pdf?src-supplier=Same+Sky; ComponentLink1Description: https://datasheet.octopart.com:443/TS37-6368-41-R-400-SMT-TR-Same-Sky-datasheet-191161330.pdf?src-supplier=Same+Sky; ComponentLink2URL: https://datasheet.octopart.com:443/TS37-6368-41-R-400-SMT-TR-Same-Sky-datasheet-191412509.pdf?src-supplier=element14+APAC; ComponentLink2Description: https://datasheet.octopart.com:443/TS37-6368-41-R-400-SMT-TR-Same-Sky-datasheet-191412509.pdf?src-supplier=element14+APAC
footprint TS37-6368-41-R-400-SMT-TR
pins: 1, 2

## Samsung CL10B105KA8NNNC
designator C?, comment Capacitance: 1uF  (hidden comment: CL10B105KA8NNNC)
25V 1uF X7R 卤10% 0603 Multilayer Ceramic Capacitors MLCC - SMD/SMT ROHS; Manufacturer: Samsung Electro-Mechanics; Tolerance: 10%; Supplier: RS; Supplier Part Number: 7664847; Manufacturer Part Number: CL10B105KA8NNNC; RoHS: Compliant; Category: Ceramic Capacitors; Stock: 464000; Pricing: 4000=0,014, 8000=0,014, 16000=0,013, 24000=0,011, 40000=0,009 (EUR); Case/Package: 0603; Case Code (Imperial): 0603; Case Code (Metric): 1608; China RoHS: Compliant; Contact Plating: Tin; Country of Origin: Mainland China, Philippines, South Korea; Depth: 800µm; Dielectric: X7R; Dielectric Material: Ceramic; Export Control Classification Number (ECCN) Code: EAR99; Height: 900µm; Harmonized Tariff Schedule (HTS) Code: 8532.24.00.20; Introduction Date: 2009-11-02; Length: 1.6mm; Lifecycle Status: Production; Material: Ceramic; Max Operating Temperature: 125°C; Min Operating Temperature: -55°C; Mounting Technology: Surface Mount; Number of Terminals: 2; Radiation Hardening: No; REACH SVHC: Yes; Schedule B: 8532240020, 8532240020|8532240020, 8532240020|8532240020|8532240020, 8532240020|8532240020|8532240020|8532240020; Thickness: 889µm; Voltage: 25V; Voltage Rating: 25V; Voltage Rating (DC): 25V; Width: 800µm; ComponentLink1URL: https://datasheet.octopart.com:443/CL10B105KA8NNNC-Samsung-Electro-Mechanics-datasheet-182019882.pdf?src-supplier=IHS; ComponentLink1Description: https://datasheet.octopart.com:443/CL10B105KA8NNNC-Samsung-Electro-Mechanics-datasheet-182019882.pdf?src-supplier=IHS; ComponentLink2URL: https://datasheet.octopart.com:443/CL10B105KA8NNNC-Samsung-Electro-Mechanics-datasheet-106547815.pdf?src-supplier=Upverter; ComponentLink2Description: https://datasheet.octopart.com:443/CL10B105KA8NNNC-Samsung-Electro-Mechanics-datasheet-106547815.pdf?src-supplier=Upverter; ComponentLink3URL: https://datasheet.octopart.com:443/CL10B105KA8NNNC-Samsung-Electro-Mechanics-datasheet-137699931.pdf?src-supplier=Samsung+SCT; ComponentLink3Description: https://datasheet.octopart.com:443/CL10B105KA8NNNC-Samsung-Electro-Mechanics-datasheet-137699931.pdf?src-supplier=Samsung+SCT; ComponentLink4URL: https://datasheet.octopart.com:443/CL10B105KA8NNNC-Samsung-Electro-Mechanics-datasheet-116890983.pdf?src-supplier=Future+Electronics; ComponentLink4Description: https://datasheet.octopart.com:443/CL10B105KA8NNNC-Samsung-Electro-Mechanics-datasheet-116890983.pdf?src-supplier=Future+Electronics; ComponentLink5URL: https://datasheet.octopart.com:443/CL10B105KA8NNNC-Samsung-datasheet-12527851.pdf?src-supplier=Future+Electronics; ComponentLink5Description: https://datasheet.octopart.com:443/CL10B105KA8NNNC-Samsung-datasheet-12527851.pdf?src-supplier=Future+Electronics; ComponentLink6URL: https://datasheet.octopart.com:443/CL10B105KA8NNNC-Samsung-datasheet-26669022.pdf?src-supplier=Future+Electronics; ComponentLink6Description: https://datasheet.octopart.com:443/CL10B105KA8NNNC-Samsung-datasheet-26669022.pdf?src-supplier=Future+Electronics; ComponentLink7URL: https://datasheet.octopart.com:443/CL10B105KA8NNNC-Samsung-Electro-Mechanics-datasheet-149136795.pdf?src-supplier=Future+Electronics; ComponentLink7Description: https://datasheet.octopart.com:443/CL10B105KA8NNNC-Samsung-Electro-Mechanics-datasheet-149136795.pdf?src-supplier=Future+Electronics; ComponentLink8URL: https://datasheet.octopart.com:443/CL10B105KA8NNNC-Samsung-datasheet-37081328.pdf?src-supplier=Future+Electronics; ComponentLink8Description: https://datasheet.octopart.com:443/CL10B105KA8NNNC-Samsung-datasheet-37081328.pdf?src-supplier=Future+Electronics; ComponentLink9URL: https://datasheet.octopart.com/CL10B105KA8NNNC-Samsung-Electro-Mechanics-datasheet-97040617.pdf; ComponentLink9Description: https://datasheet.octopart.com/CL10B105KA8NNNC-Samsung-Electro-Mechanics-datasheet-97040617.pdf; ComponentLink10URL: https://datasheet.octopart.com/CL10B105KA8NNNC-Samsung-Electro-Mechanics-datasheet-8324245.pdf; ComponentLink10Description: https://datasheet.octopart.com/CL10B105KA8NNNC-Samsung-Electro-Mechanics-datasheet-8324245.pdf; ComponentLink11URL: https://datasheet.octopart.com:443/CL10B105KA8NNNC-Samsung-datasheet-59220082.pdf?src-supplier=TME; ComponentLink11Description: https://datasheet.octopart.com:443/CL10B105KA8NNNC-Samsung-datasheet-59220082.pdf?src-supplier=TME; ComponentLink12URL: https://datasheet.octopart.com:443/CL10B105KA8NNNC-Samsung-Electro-Mechanics-datasheet-11897796.pdf?src-supplier=Arrow+Electronics; ComponentLink12Description: https://datasheet.octopart.com:443/CL10B105KA8NNNC-Samsung-Electro-Mechanics-datasheet-11897796.pdf?src-supplier=Arrow+Electronics
footprint cap_0603
pins: 1, 2

## Samsung CL10C150JC81PNC
designator C?, comment Capacitance: 15pF  (hidden comment: CL10C150JC81PNC)
100V 15pF C0G 卤5% 0603 Multilayer Ceramic Capacitors MLCC - SMD/SMT ROHS; Manufacturer: Samsung Electro-Mechanics; Temperature Coefficient: 30ppm/°C; Tolerance: 5%; Supplier: DigiKey; Supplier Part Number: 1276-CL10C150JC81PNCDKR-ND; Manufacturer Part Number: CL10C150JC81PNC; RoHS: Compliant; Category: Ceramic Capacitors; Stock: 73765; Pricing: 1=0,1, 10=0,05, 50=0,0342, 100=0,0295, 500=0,02142, 1000=0,01896 (USD); Case/Package: 0603; China RoHS: Compliant; Country of Origin: Mainland China, Philippines, South Korea; Dielectric Material: Ceramic; Export Control Classification Number (ECCN) Code: EAR99; Height: 800µm; Harmonized Tariff Schedule (HTS) Code: 8532.24.00.20; Introduction Date: 2010-02-10; Length: 1.6mm; Lifecycle Status: Production; Material: Ceramic; Max Operating Temperature: 125°C; Min Operating Temperature: -55°C; Mounting Technology: Surface Mount; Number of Terminals: 2; REACH SVHC: Yes; Voltage Rating: 100V; Voltage Rating (DC): 100V; Width: 800µm; ComponentLink1URL: https://datasheet.octopart.com:443/CL10C150JC81PNC-Samsung-Electro-Mechanics-datasheet-176142735.pdf?src-supplier=IHS; ComponentLink1Description: https://datasheet.octopart.com:443/CL10C150JC81PNC-Samsung-Electro-Mechanics-datasheet-176142735.pdf?src-supplier=IHS
footprint cap_0603
pins: 1, 2

## Samsung CL10C330JB8NNNC
designator C?, comment Capacitance: 33pF  (hidden comment: CL10C330JB8NNNC)
Multilayer Ceramic Capacitor, 33 pF, 50 V, ± 5%, C0G (NP0), 0603 [1608 Metric]; Manufacturer: Samsung Electro-Mechanics; Temperature Coefficient: 30ppm/°C; Voltage: 50V; Supplier: RS; Supplier Part Number: 7665070; Manufacturer Part Number: CL10C330JB8NNNC; RoHS: Compliant; Category: Ceramic Capacitors; Stock: 292000; Pricing: 4000=0,009, 12000=0,008, 20000=0,008, 40000=0,007, 100000=0,007 (EUR); Case/Package: 0603; Case Code (Imperial): 0603; Case Code (Metric): 1608; China RoHS: Compliant; Contact Plating: Tin; Country of Origin: Mainland China, Philippines, South Korea; Depth: 800µm; Dielectric: C0G; Dielectric Material: Ceramic; Export Control Classification Number (ECCN) Code: EAR99; Height: 900µm; Harmonized Tariff Schedule (HTS) Code: 8532.24.00.20; Introduction Date: 2010-02-10; Lead Free: Lead Free; Length: 1.6mm; Lifecycle Status: Production; Material: Ceramic; Max Operating Temperature: 125°C; Min Operating Temperature: -55°C; Mounting Technology: Surface Mount; Number of Terminals: 2; Radiation Hardening: No; REACH SVHC: Yes; Schedule B: 8532240020, 8532240020|8532240020|8532240020|8532240020|8532240020; Thickness: 889µm; Tolerance: 5%; Voltage Rating: 50V; Voltage Rating (DC): 50V; Width: 800µm; ComponentLink1URL: https://datasheet.octopart.com:443/CL10C330JB8NNNC-Samsung-Electro-Mechanics-datasheet-136482426.pdf?src-supplier=IHS; ComponentLink1Description: https://datasheet.octopart.com:443/CL10C330JB8NNNC-Samsung-Electro-Mechanics-datasheet-136482426.pdf?src-supplier=IHS; ComponentLink2URL: https://datasheet.octopart.com/CL10C330JB8NNNC-Samsung-Electro-Mechanics-datasheet-8324245.pdf; ComponentLink2Description: https://datasheet.octopart.com/CL10C330JB8NNNC-Samsung-Electro-Mechanics-datasheet-8324245.pdf; ComponentLink3URL: https://datasheet.octopart.com/CL10C330JB8NNNC-Samsung-Electro-Mechanics-datasheet-97040617.pdf; ComponentLink3Description: https://datasheet.octopart.com/CL10C330JB8NNNC-Samsung-Electro-Mechanics-datasheet-97040617.pdf; ComponentLink4URL: https://datasheet.octopart.com/General-Multilayer-Ceramic-Capacitors-Samsung-datasheet-family-111.pdf; ComponentLink4Description: https://datasheet.octopart.com/General-Multilayer-Ceramic-Capacitors-Samsung-datasheet-family-111.pdf; ComponentLink5URL: https://datasheet.octopart.com:443/CL10C330JB8NNNC-Samsung-Electro-Mechanics-datasheet-110226363.pdf?src-supplier=Future+Electronics; ComponentLink5Description: https://datasheet.octopart.com:443/CL10C330JB8NNNC-Samsung-Electro-Mechanics-datasheet-110226363.pdf?src-supplier=Future+Electronics; ComponentLink6URL: https://datasheet.octopart.com:443/CL10C330JB8NNNC-Samsung-Electro-Mechanics-datasheet-81462031.pdf?src-supplier=Future+Electronics; ComponentLink6Description: https://datasheet.octopart.com:443/CL10C330JB8NNNC-Samsung-Electro-Mechanics-datasheet-81462031.pdf?src-supplier=Future+Electronics; ComponentLink7URL: https://datasheet.octopart.com:443/CL10C330JB8NNNC-Samsung-datasheet-42280639.pdf?src-supplier=Future+Electronics; ComponentLink7Description: https://datasheet.octopart.com:443/CL10C330JB8NNNC-Samsung-datasheet-42280639.pdf?src-supplier=Future+Electronics; ComponentLink8URL: https://datasheet.octopart.com:443/CL10C330JB8NNNC-Samsung-datasheet-26669168.pdf?src-supplier=Future+Electronics; ComponentLink8Description: https://datasheet.octopart.com:443/CL10C330JB8NNNC-Samsung-datasheet-26669168.pdf?src-supplier=Future+Electronics; ComponentLink9URL: https://datasheet.octopart.com:443/CL10C330JB8NNNC-Samsung-Electro-Mechanics-datasheet-149136915.pdf?src-supplier=Future+Electronics; ComponentLink9Description: https://datasheet.octopart.com:443/CL10C330JB8NNNC-Samsung-Electro-Mechanics-datasheet-149136915.pdf?src-supplier=Future+Electronics; ComponentLink10URL: https://datasheet.octopart.com:443/CL10C330JB8NNNC-Samsung-datasheet-8326407.pdf?src-supplier=TME; ComponentLink10Description: https://datasheet.octopart.com:443/CL10C330JB8NNNC-Samsung-datasheet-8326407.pdf?src-supplier=TME; ComponentLink11URL: http://sigma.octopart.com:80/rohs_certificate/General-Multilayer-Ceramic-Capacitors-Samsung-family-110.pdf?src-supplier=Compliance+Statements; ComponentLink11Description: http://sigma.octopart.com:80/rohs_certificate/General-Multilayer-Ceramic-Capacitors-Samsung-family-110.pdf?src-supplier=Compliance+Statements; ComponentLink12URL: http://sigma.octopart.com:80/rohs_statement/General-Multilayer-Ceramic-Capacitors-Samsung-family-132.pdf?src-supplier=Compliance+Statements; ComponentLink12Description: http://sigma.octopart.com:80/rohs_statement/General-Multilayer-Ceramic-Capacitors-Samsung-family-132.pdf?src-supplier=Compliance+Statements; ComponentLink13URL: http://sigma.octopart.com:80/reach_statement/General-Multilayer-Ceramic-Capacitors-Samsung-family-133.pdf?src-supplier=Compliance+Statements; ComponentLink13Description: http://sigma.octopart.com:80/reach_statement/General-Multilayer-Ceramic-Capacitors-Samsung-family-133.pdf?src-supplier=Compliance+Statements
footprint cap_0603
pins: 1, 2

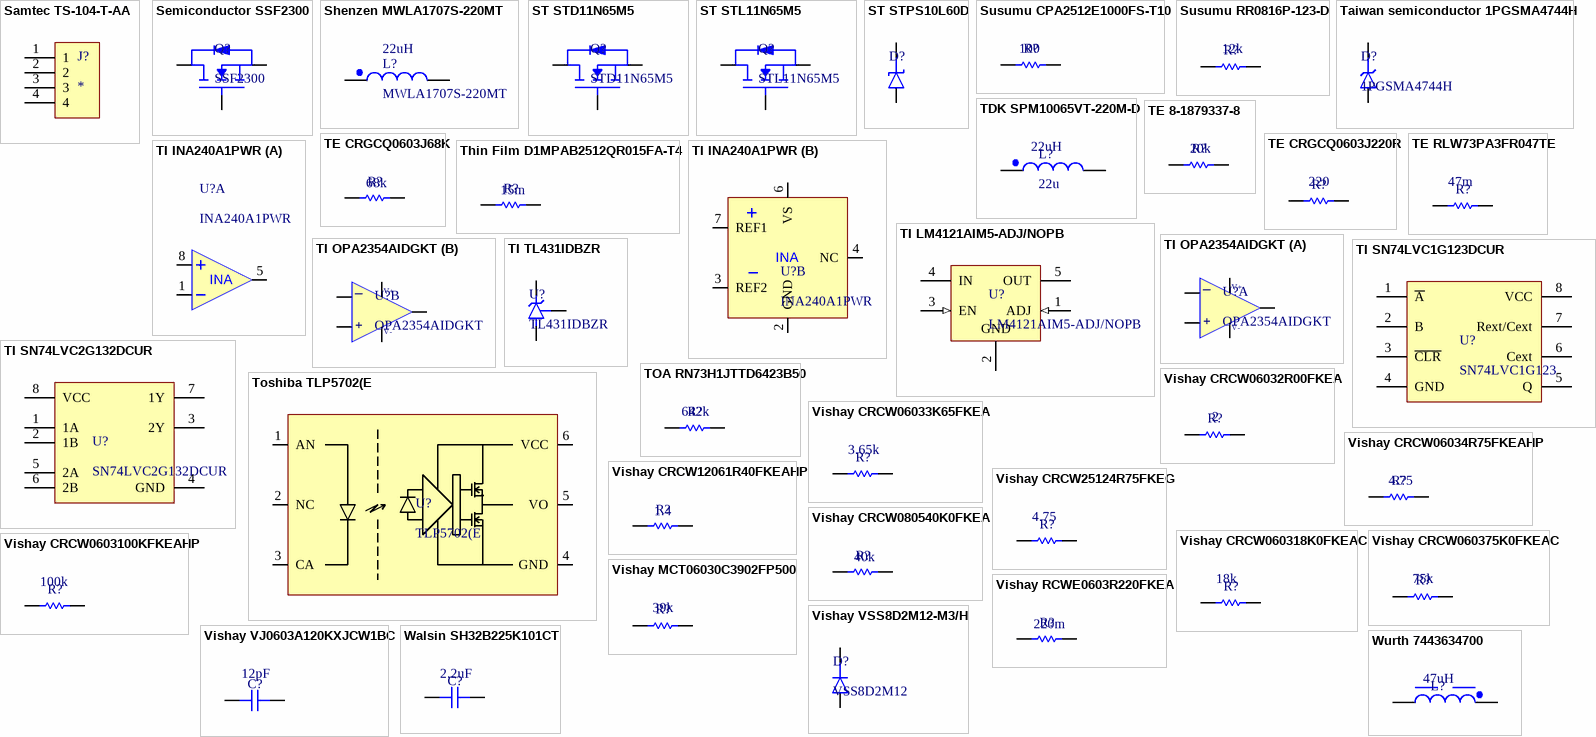
[diagram p1: symbols Samtec TS-104-T-AA to Wurth 7443634700]

## Samtec TS-104-T-AA
designator J?
Pin Header, Precision Machined Terminal, Board-to-Board, 2.54 mm, 1 Rows, 4 Contacts, Through Hole; Manufacturer: Samtec; Manufacturer Part Number: TS-104-T-AA; Manufacturer Lifecycle Status: PRODUCTION; Gender: Male; Max Current Rating: 1A; Number of Contacts: 4; Pitch: 2.54mm; Supplier: RS; Supplier Part Number: 2001484; RoHS: Compliant; Category: Board to Board Connectors; Stock: 2; Pricing: 1=0,88, 10=0,71, 100=0,63, 250=0,56 (EUR); Contact Material: Brass; Contact Plating: Tin; Lifecycle Status: Production; Max Operating Temperature: 105°C; Min Operating Temperature: -55°C; Mounting Technology: Through Hole; Number of Rows: 1; Orientation: Straight; Radiation Hardening: No; REACH SVHC: No; Termination: Solder; ComponentLink1URL: https://datasheet.octopart.com:443/TS-104-T-AA-Samtec-datasheet-97318998.pdf?src-supplier=Master+Electronics; ComponentLink1Description: https://datasheet.octopart.com:443/TS-104-T-AA-Samtec-datasheet-97318998.pdf?src-supplier=Master+Electronics; ComponentLink2URL: https://datasheet.octopart.com:443/TS-104-T-AA-Samtec-datasheet-150856305.pdf?src-supplier=Electro+Sonic; ComponentLink2Description: https://datasheet.octopart.com:443/TS-104-T-AA-Samtec-datasheet-150856305.pdf?src-supplier=Electro+Sonic; ComponentLink3URL: https://datasheet.octopart.com:443/TS-104-T-AA-Samtec-datasheet-13698575.pdf?src-supplier=Electro+Sonic; ComponentLink3Description: https://datasheet.octopart.com:443/TS-104-T-AA-Samtec-datasheet-13698575.pdf?src-supplier=Electro+Sonic; ComponentLink4URL: https://datasheet.octopart.com:443/TS-104-T-AA-Samtec-datasheet-37173861.pdf?src-supplier=Electro+Sonic; ComponentLink4Description: https://datasheet.octopart.com:443/TS-104-T-AA-Samtec-datasheet-37173861.pdf?src-supplier=Electro+Sonic; ComponentLink5URL: https://datasheet.octopart.com:443/TS-104-T-AA-Samtec-datasheet-41643166.pdf?src-supplier=Farnell; ComponentLink5Description: https://datasheet.octopart.com:443/TS-104-T-AA-Samtec-datasheet-41643166.pdf?src-supplier=Farnell; ComponentLink6URL: https://datasheet.octopart.com:443/TS-104-T-AA-Samtec-datasheet-28904454.pdf?src-supplier=Farnell; ComponentLink6Description: https://datasheet.octopart.com:443/TS-104-T-AA-Samtec-datasheet-28904454.pdf?src-supplier=Farnell; ComponentLink7URL: https://datasheet.octopart.com:443/TS-104-T-AA-Samtec-datasheet-8451641.pdf?src-supplier=Farnell; ComponentLink7Description: https://datasheet.octopart.com:443/TS-104-T-AA-Samtec-datasheet-8451641.pdf?src-supplier=Farnell; ComponentLink8URL: https://datasheet.octopart.com:443/TS-104-T-AA-Samtec-datasheet-179090728.pdf?src-supplier=Sager+Electronics; ComponentLink8Description: https://datasheet.octopart.com:443/TS-104-T-AA-Samtec-datasheet-179090728.pdf?src-supplier=Sager+Electronics; ComponentLink9URL: https://datasheet.octopart.com:443/TS-104-T-AA-Samtec-datasheet-118235246.pdf?src-supplier=Sager+Electronics; ComponentLink9Description: https://datasheet.octopart.com:443/TS-104-T-AA-Samtec-datasheet-118235246.pdf?src-supplier=Sager+Electronics; ComponentLink10URL: https://datasheet.octopart.com:443/TS-104-T-AA-Samtec-datasheet-116533476.pdf?src-supplier=Toby+Electronics; ComponentLink10Description: https://datasheet.octopart.com:443/TS-104-T-AA-Samtec-datasheet-116533476.pdf?src-supplier=Toby+Electronics; ComponentLink11URL: https://datasheet.octopart.com:443/TS-104-T-AA-Samtec-datasheet-116536303.pdf?src-supplier=Toby+Electronics; ComponentLink11Description: https://datasheet.octopart.com:443/TS-104-T-AA-Samtec-datasheet-116536303.pdf?src-supplier=Toby+Electronics
footprint CONN HEADER VERT 4POS 2.54MM
pins: 1, 2, 3, 4